# EAGLE library part 201646-008 (library con-molex-spoton)
HEADER
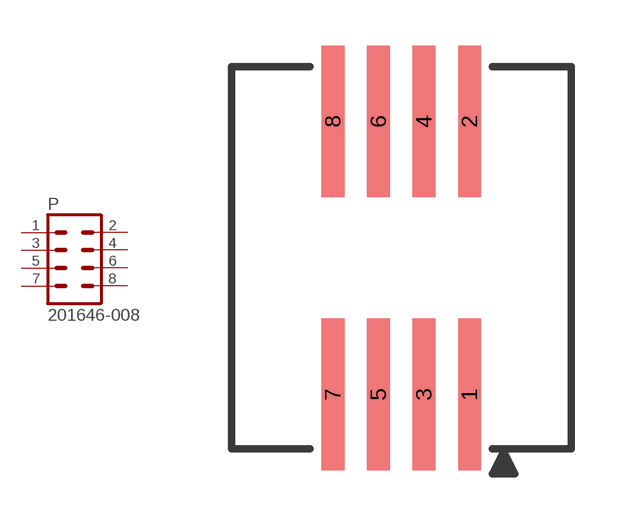
[diagram p0: symbol with the pads of 201646-008; footprint 201646-008]

Designator prefix P

## 201646-008  [201646-008]
1  1  pas
2  2  pas
3  3  pas
4  4  pas
5  5  pas
6  6  pas
7  7  pas
8  8  pas

## Footprint 201646-008 (pad centres in mm)
HEADER
smd 0.75 x 5: 1 2.25,-4.5; 2 2.25,4.5; 3 0.75,-4.5; 4 0.75,4.5; 5 -0.75,-4.5; 6 -0.75,4.5; 7 -2.25,-4.5; 8 -2.25,4.5